# Altium schematic symbol library BEAGLEBONEBLACK_REV A5B.SCHLIB: 40 symbols (part 2 of 2)
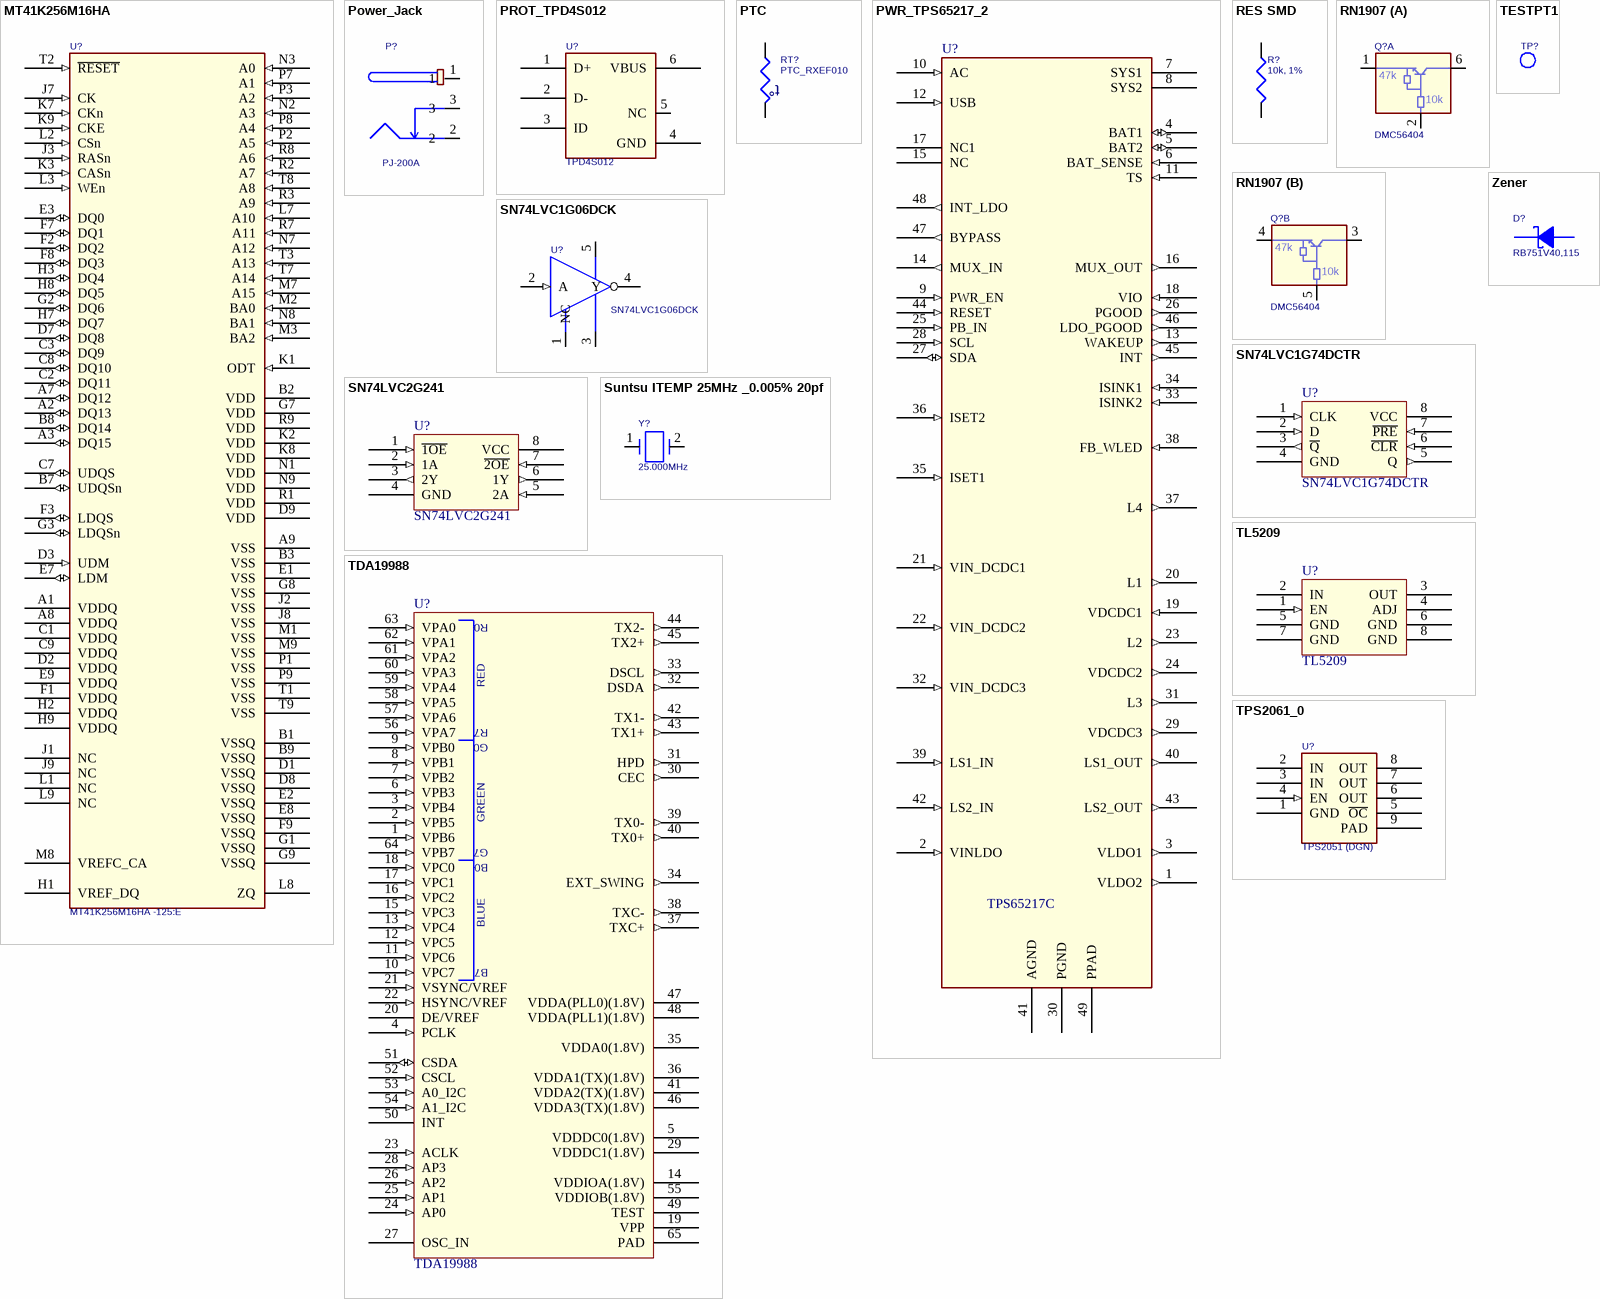
[diagram p5: symbols MT41K256M16HA to Zener]

## Suntsu ITEMP 25MHz _0.005% 20pf
designator Y?, comment 25.000MHz
Manufacturer: Abracon Corporation; Manufacturer Part Number: ABM3-25.000MHZ-B2-T; Frequency: 25MHz; Frequency Stability: ±50ppm; Frequency Tolerance: ±20ppm; Load Capacitance: 18pF; ESR (Equivalent Series Resistance): 50 Ohm; Operating Mode: Fundamental; Supplier 1: Digi-Key; Supplier Part Number 1: 535-9108-6-ND; RoHS: RoHS Compliant; Category: Crystals and Oscillators; Stock 1: 23589; Pricing 1: 1=1.43, 10=1.235, 50=1.083, 100=0.855, 500=0.722 (USD); Type: MHz Crystal; Operating Temperature: -20°C ~ 70°C; Ratings: -; Mounting Type: Surface Mount; Package / Case: 2-SMD; Size / Dimension: 0.197" L x 0.126" W (5.00mm x 3.20mm); Height: 0.051" (1.30mm); Packaging: Digi-Reel®; ComponentLink1URL: http://www.abracon.com/Resonators/abm3.pdf; ComponentLink1Description: http://www.abracon.com/Resonators/abm3.pdf
footprint XTAL150SMD_125X196
pins: 1, 2

## TDA19988
designator U?
IC HDMI TRANSMITTER 64-HVQFN; Manufacturer: NXP Semiconductors; Manufacturer Part Number: TDA19988AHN/C1,551; Supplier 1: Digi-Key; Supplier Part Number 1: TDA19988AHN/C1,551-ND; RoHS: RoHS Compliant; Category: Integrated Circuits (ICs); Stock 1: 0; Pricing 1: 260=4.59 (USD); Type: HDMI Transmitter; Applications: Set-Top Boxes; Mounting Type: Surface Mount; Package / Case: 64-VFQFN Exposed Pad; Supplier Device Package: 64-HVQFN (9x9); Packaging: Tray
footprint QFN64S9X9P5
pins: 1 VPB6 (in), 2 VPB5 (in), 3 VPB4 (in), 4 PCLK (in), 5 VDDDC0(1.8V) (power), 6 VPB3 (in), 7 VPB2 (in), 8 VPB1 (in), 9 VPB0 (in), 10 VPC7 (in), 11 VPC6 (in), 12 VPC5 (in), 13 VPC4 (in), 14 VDDIOA(1.8V) (power), 15 VPC3 (in), 16 VPC2 (in), 17 VPC1 (in), 18 VPC0 (in), 19 VPP (power), 20 DE/VREF, 21 VSYNC/VREF (in), 22 HSYNC/VREF (in), 23 ACLK (in), 24 AP0 (in), 25 AP1 (in), 26 AP2 (in), 27 OSC_IN, 28 AP3 (in), 29 VDDDC1(1.8V) (power), 30 CEC (out), 31 HPD (out), 32 DSDA (out), 33 DSCL (out), 34 EXT_SWING (out), 35 VDDA0(1.8V) (power), 36 VDDA1(TX)(1.8V) (power), 37 TXC+ (out), 38 TXC- (out), 39 TX0- (out), 40 TX0+ (out), 41 VDDA2(TX)(1.8V) (power), 42 TX1- (out), 43 TX1+ (out), 44 TX2- (out), 45 TX2+ (out), 46 VDDA3(TX)(1.8V) (power), 47 VDDA(PLL0)(1.8V) (power), 48 VDDA(PLL1)(1.8V) (power), 49 TEST, 50 INT (oc), 51 CSDA (io), 52 CSCL (in), 53 A0_I2C (in), 54 A1_I2C (in), 55 VDDIOB(1.8V) (power), 56 VPA7 (in), 57 VPA6 (in), 58 VPA5 (in), 59 VPA4 (in), 60 VPA3 (in), 61 VPA2 (in), 62 VPA1 (in), 63 VPA0 (in), 64 VPB7 (in), 65 PAD (power)
text: R0; RED; R7; G0; GREEN; G7; B0; BLUE; B7

## TESTPT1
designator TP?  (value not drawn)  (no BOM)
footprint tp1-8040
footprint tp1-8040
pins: 1 TP

## TL5209
designator U?
IC LDO VOLT REG 500MA 8-SOIC; Manufacturer: Texas Instruments; Manufacturer Part Number: TL5209DR; Regulator Topology: Positive Adjustable; Voltage - Output: 2.5 V ~ 6.5 V; Voltage - Input: 2.5 V ~ 16 V; Voltage - Dropout (Typical): 0.35V @ 500mA; Number of Regulators: 1; Current - Output: 500mA (Max); Supplier 1: Digi-Key; Supplier Part Number 1: 296-21569-6-ND; RoHS: RoHS Compliant; Category: Integrated Circuits (ICs); Stock 1: 7190; Pricing 1: 1=1.41, 10=1.244, 25=1.1232, 100=0.9828, 250=0.86192, 500=0.7644, 1000=0.6045 (USD); Current - Limit (Min): -; Operating Temperature: -40°C ~ 125°C; Mounting Type: Surface Mount; Package / Case: 8-SOIC (0.154", 3.90mm Width); Supplier Device Package: 8-SOIC; Packaging: Digi-Reel®; ComponentLink1URL: http://media.digikey.com/pdf/Data%20Sheets/Texas%20Instruments%20PDFs/TL5209.pdf; ComponentLink1Description: http://media.digikey.com/pdf/Data%20Sheets/Texas%20Instruments%20PDFs/TL5209.pdf
footprint SO8-25X75
pins: 1 EN (in), 2 IN (power), 3 OUT (power), 4 ADJ, 5 GND (power), 6 GND (power), 7 GND (power), 8 GND (power)

## TPS2061_0
designator U?, comment TPS2051 (DGN)
IC 1.5A PWR DIST SWITCH 8-SOIC; Manufacturer: Texas Instruments; Manufacturer Part Number: TPS2051BDGNR; Number of Outputs: 1; Rds (On): 135 mOhm; Internal Switch(s): Yes; Current Limit: 1A; Voltage - Input: 2.7 V ~ 5.5 V; Supplier 1: Digi-Key; Supplier Part Number 1: 296-17313-6-ND; RoHS: RoHS Compliant; Category: Integrated Circuits (ICs); Stock 1: 7065; Pricing 1: 1=1.82, 10=1.642, 25=1.4708, 100=1.3224, 250=1.1742, 500=1.026, 1000=0.8493 (USD); Type: High Side Switch; Operating Temperature: -40°C ~ 85°C; Mounting Type: Surface Mount; Package / Case: 8-TSSOP, 8-MSOP (0.118", 3.00mm Width) Exposed Pad; Supplier Device Package: 8-MSOP-PowerPad; Packaging: Digi-Reel®; ComponentLink1URL: http://www.ti.com/lit/ds/symlink/tps2051b.pdf; ComponentLink1Description: http://www.ti.com/lit/ds/symlink/tps2051b.pdf
footprint DGN-16X60
pins: 1 GND (power), 2 IN (power), 3 IN (power), 4 EN (in), 5 ~{OC}, 6 OUT (power), 7 OUT (power), 8 OUT (power), 9 PAD

## Zener
designator D?, comment RB751V40,115
DIODE SCHOTTKY 40V 120MA SOD323; Manufacturer: NXP Semiconductors; Current - Average Rectified (Io): 120mA (DC); Voltage - Forward (Vf) (Max) @ If: 370mV @ 1mA; Speed: Small Signal =< 200mA (Io), Any Speed; Current - Reverse Leakage @ Vr: 500nA @ 30V; Capacitance @ Vr, F: 2pF @ 1V, 1MHz; Supplier 1: Digi-Key; Supplier Part Number 1: 568-8119-6-ND; Manufacturer Part Number: RB751V40,115; RoHS: RoHS Compliant; Category: Discrete Semiconductor Products; Stock 1: 5326; Pricing 1: 1=0.29, 10=0.26, 25=0.1872, 100=0.1456, 250=0.09152, 500=0.07798, 1000=0.05313 (USD); Diode Type: Schottky; Voltage - DC Reverse (Vr) (Max): 40V; Reverse Recovery Time (trr): -; Mounting Type: Surface Mount; Package / Case: SC-76, SOD-323; Supplier Device Package: SOD-323; Packaging: Digi-Reel®; ComponentLink1URL: http://www.nxp.com/documents/data_sheet/RB751_SER.pdf; ComponentLink1Description: http://www.nxp.com/documents/data_sheet/RB751_SER.pdf
footprint SOD323
pins: 1 C, 2 A